# EAGLE library part CA3046 (library wb-transistors)
NEEDS POWER
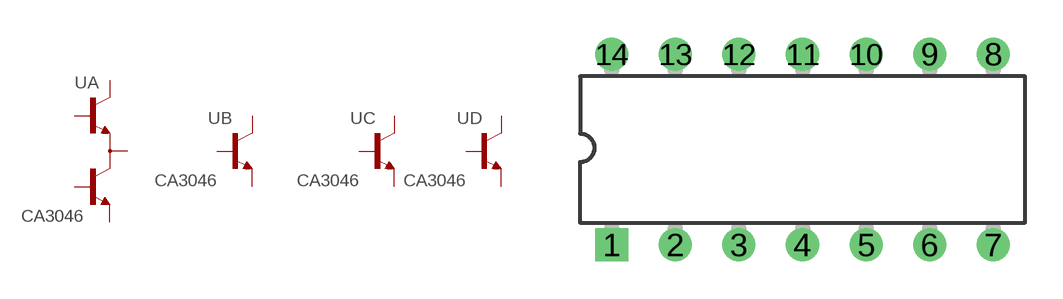
[diagram p0: symbol with the pads of DIL14; footprint DIL14]

Designator prefix -; gates A=BJT-CAS B=BJT-N C=BJT-N D=BJT-N

## CA3046  [DIL14]
1  A:C1
2  A:B1
3  A:E1C2
4  A:B2
5  A:E2
6  B:B
7  B:C
8  B:E
9  C:B
10  C:C
11  C:E
12  D:B
13  D:C
14  D:E

## Footprint DIL14 (pad centres in mm)
drill 0.813 square: 1 -7.62,-3.81
drill 0.813: 2 -5.08,-3.81; 3 -2.54,-3.81; 4 0,-3.81; 5 2.54,-3.81; 6 5.08,-3.81; 7 7.62,-3.81; 8 7.62,3.81; 9 5.08,3.81; 10 2.54,3.81; 11 0,3.81; 12 -2.54,3.81; 13 -5.08,3.81; 14 -7.62,3.81